# Altium footprint library DRV8300DRGER.PcbLib: 4 footprints
Each footprint in its own frame and in the unit in brackets; x right, y up, seen from the top. Pads: shape width x height; smd on the part's side, far side on the other; paste and mask are expansions set on the pad; w line width, h text height; cw(c..) or ccw(c..) is an arc to the next point about the centre after c.
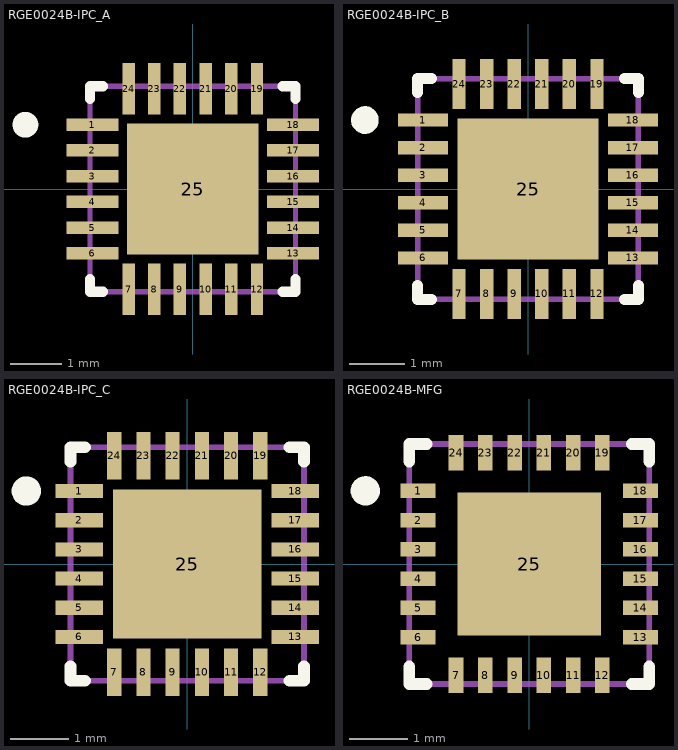
[diagram p0: the footprints below, top view; thin cyan lines are the x and y axes]

## RGE0024B-IPC_A [mm]
pads (25):
  rect 1.01x0.242 smd paste+0 mask+0: 1(-1.951,1.25) 2(-1.951,0.75) 3(-1.951,0.25) 4(-1.951,-0.25) 5(-1.951,-0.75) 6(-1.951,-1.25) 13(1.951,-1.25) 14(1.951,-0.75) 15(1.951,-0.25) 16(1.951,0.25) 17(1.951,0.75) 18(1.951,1.25)
  rect 0.242x1.01 smd paste+0 mask+0: 7(-1.25,-1.951) 8(-0.75,-1.951) 9(-0.25,-1.951) 10(0.25,-1.951) 11(0.75,-1.951) 12(1.25,-1.951) 19(1.25,1.951) 20(0.75,1.951) 21(0.25,1.951) 22(-0.25,1.951) 23(-0.75,1.951) 24(-1.25,1.951)
  rect 2.55x2.55 smd paste-1.262 mask+0: 25(0,0)
Top Overlay:
  circle w0.25: c-3.256,1.25 r0.125
  lines w0.2: -2,-1.75 -2,-2 -1.75,-2 ; -2,1.75 -2,2 -1.75,2 ; 1.75,-2 2,-2 2,-1.75 ; 1.75,2 2,2 2,1.75
Top Paste:
  region: -0.806,0.806 -0.806,-0.806 0.806,-0.806 0.806,0.806
Mechanical 13:
  lines w0.1: -2,-2 2,-2 2,2 -2,2 -2,-2
3D body "RGE0024B.stp": height 1, standoff 0, extent -2,-2 2,2

## RGE0024B-IPC_B [mm]
pads (25):
  rect 0.91x0.242 smd paste+0 mask+0: 1(-1.901,1.25) 2(-1.901,0.75) 3(-1.901,0.25) 4(-1.901,-0.25) 5(-1.901,-0.75) 6(-1.901,-1.25) 13(1.901,-1.25) 14(1.901,-0.75) 15(1.901,-0.25) 16(1.901,0.25) 17(1.901,0.75) 18(1.901,1.25)
  rect 0.242x0.91 smd paste+0 mask+0: 7(-1.25,-1.901) 8(-0.75,-1.901) 9(-0.25,-1.901) 10(0.25,-1.901) 11(0.75,-1.901) 12(1.25,-1.901) 19(1.25,1.901) 20(0.75,1.901) 21(0.25,1.901) 22(-0.25,1.901) 23(-0.75,1.901) 24(-1.25,1.901)
  rect 2.55x2.55 smd paste-1.262 mask+0: 25(0,0)
Top Overlay:
  circle w0.25: c-2.956,1.25 r0.125
  lines w0.2: -2,-1.75 -2,-2 -1.75,-2 ; -2,1.75 -2,2 -1.75,2 ; 1.75,-2 2,-2 2,-1.75 ; 1.75,2 2,2 2,1.75
Top Paste:
  region: -0.806,0.806 -0.806,-0.806 0.806,-0.806 0.806,0.806
Mechanical 13:
  lines w0.1: -2,-2 -2,2 2,2 2,-2 -2,-2
3D body "RGE0024B.stp": height 1, standoff 0, extent -2,-2 2,2

## RGE0024B-IPC_C [mm]
pads (25):
  rect 0.81x0.242 smd paste+0 mask+0: 1(-1.851,1.25) 2(-1.851,0.75) 3(-1.851,0.25) 4(-1.851,-0.25) 5(-1.851,-0.75) 6(-1.851,-1.25) 13(1.851,-1.25) 14(1.851,-0.75) 15(1.851,-0.25) 16(1.851,0.25) 17(1.851,0.75) 18(1.851,1.25)
  rect 0.242x0.81 smd paste+0 mask+0: 7(-1.25,-1.851) 8(-0.75,-1.851) 9(-0.25,-1.851) 10(0.25,-1.851) 11(0.75,-1.851) 12(1.25,-1.851) 19(1.25,1.851) 20(0.75,1.851) 21(0.25,1.851) 22(-0.25,1.851) 23(-0.75,1.851) 24(-1.25,1.851)
  rect 2.55x2.55 smd paste-1.262 mask+0: 25(0,0)
Top Overlay:
  circle w0.25: c-2.756,1.25 r0.125
  lines w0.2: -2,-1.75 -2,-2 -1.75,-2 ; -2,1.75 -2,2 -1.75,2 ; 1.75,-2 2,-2 2,-1.75 ; 1.75,2 2,2 2,1.75
Top Paste:
  region: -0.806,0.806 -0.806,-0.806 0.806,-0.806 0.806,0.806
Mechanical 13:
  lines w0.1: -2,-2 -2,2 2,2 2,-2 -2,-2
3D body "RGE0024B.stp": height 1, standoff 0, extent -2,-2 2,2

## RGE0024B-MFG [mm]
pads (25):
  rect 0.6x0.25 smd paste+0 mask+0: 1(-1.9,1.25) 2(-1.9,0.75) 3(-1.9,0.25) 4(-1.9,-0.25) 5(-1.9,-0.75) 6(-1.9,-1.25) 13(1.9,-1.25) 14(1.9,-0.75) 15(1.9,-0.25) 16(1.9,0.25) 17(1.9,0.75) 18(1.9,1.25)
  rect 0.25x0.6 smd paste+0 mask+0: 7(-1.25,-1.9) 8(-0.75,-1.9) 9(-0.25,-1.9) 10(0.25,-1.9) 11(0.75,-1.9) 12(1.25,-1.9) 19(1.25,1.9) 20(0.75,1.9) 21(0.25,1.9) 22(-0.25,1.9) 23(-0.75,1.9) 24(-1.25,1.9)
  rect 2.45x2.45 smd paste-1.212 mask+0: 25(0,0)
Top Overlay:
  circle w0.25: c-2.8,1.25 r0.125
  lines w0.2: -2.05,-1.75 -2.05,-2.05 -1.75,-2.05 ; -2.05,1.75 -2.05,2.05 -1.75,2.05 ; 1.75,-2.05 2.05,-2.05 2.05,-1.75 ; 1.75,2.05 2.05,2.05 2.05,1.75
Top Paste:
  region: 1.13,-0.1 1.18,-0.15 1.18,-1.13 1.13,-1.18 0.15,-1.18 0.1,-1.13 0.1,-0.15 0.15,-0.1
  region: -0.15,-0.1 -0.1,-0.15 -0.1,-1.13 -0.15,-1.18 -1.13,-1.18 -1.18,-1.13 -1.18,-0.15 -1.13,-0.1
  region: 1.13,1.18 1.18,1.13 1.18,0.15 1.13,0.1 0.15,0.1 0.1,0.15 0.1,1.13 0.15,1.18
  region: -0.15,1.18 -0.1,1.13 -0.1,0.15 -0.15,0.1 -1.13,0.1 -1.18,0.15 -1.18,1.13 -1.13,1.18
Mechanical 13:
  lines w0.1: -2.05,-2.05 -2.05,2.05 2.05,2.05 2.05,-2.05 -2.05,-2.05
3D body "RGE0024B.stp": height 1, standoff 0, extent -2,-2 2,2